# EAGLE library part XIO (library sjg-stm32)
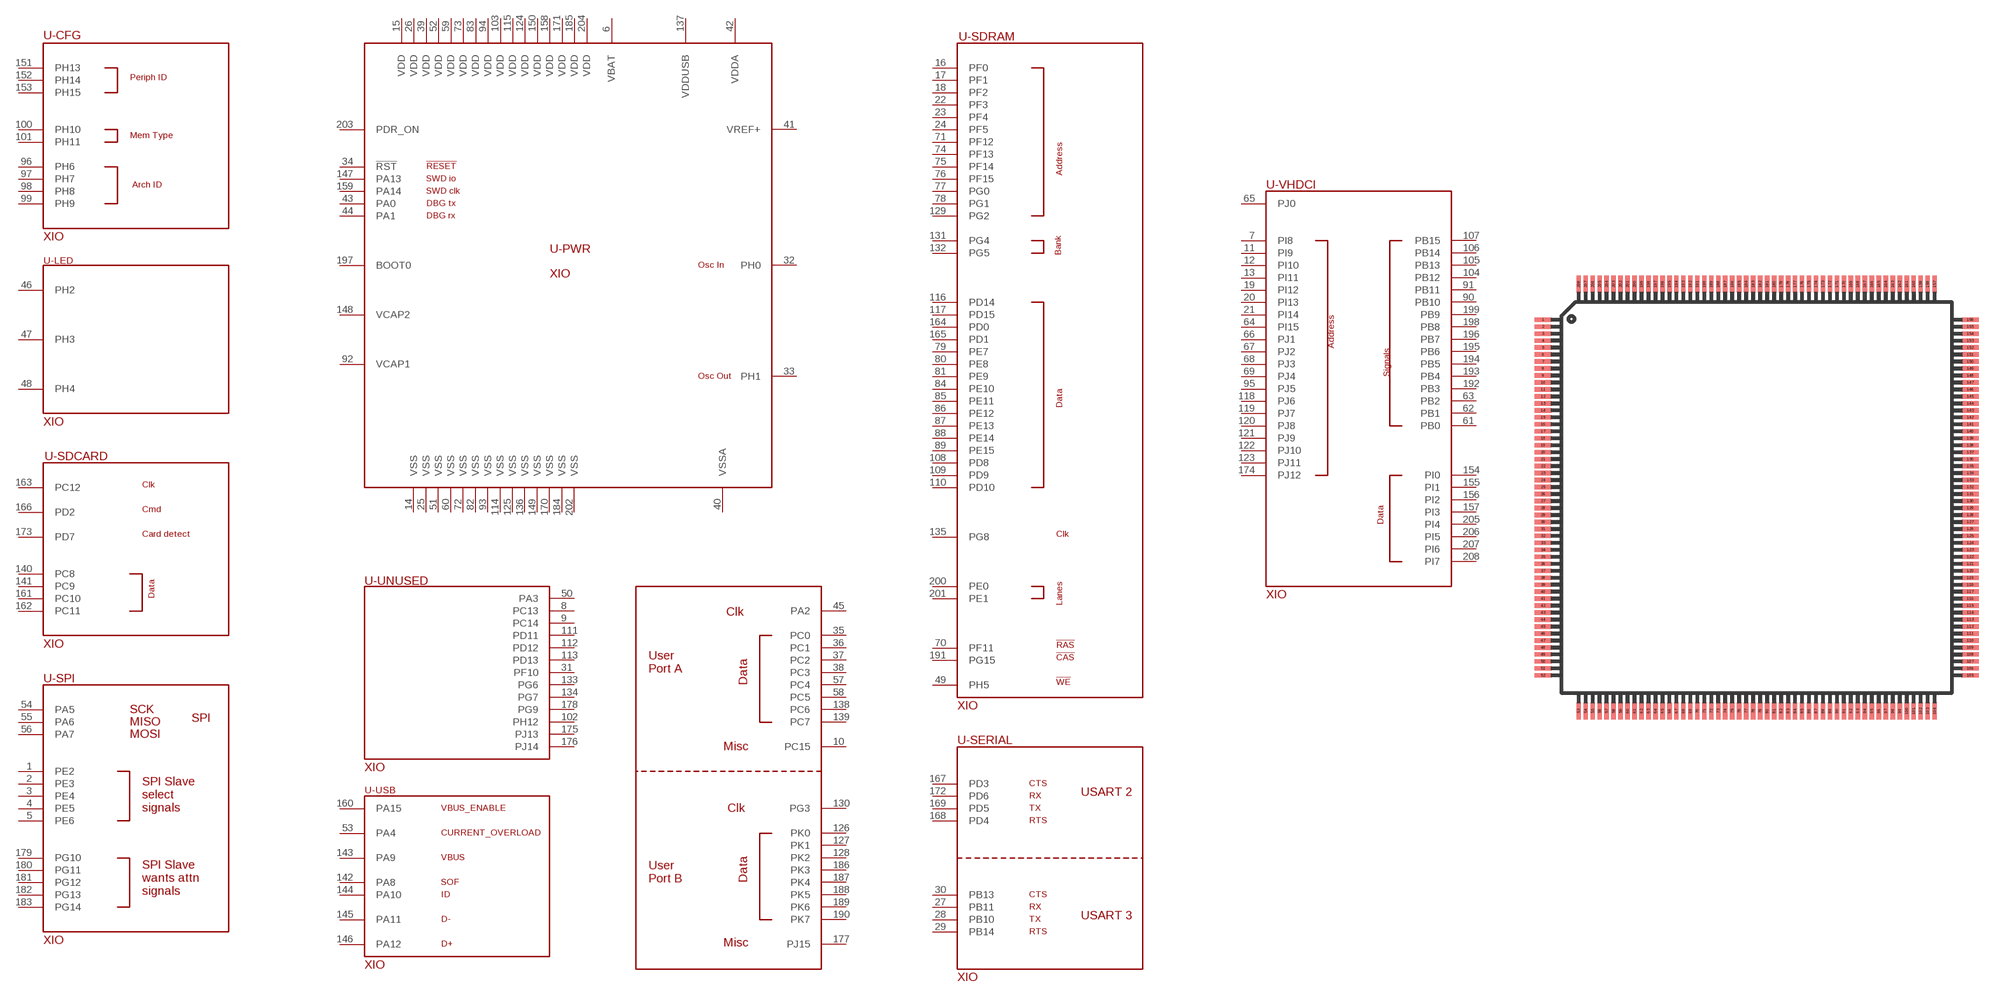
[diagram p6: symbol with the pads of PQFP208; footprint PQFP208]

Designator prefix -; gates -CFG=XIO-CFG -LED=XIO-LED -PWR=XIO-PWR -SDCARD=XIO-SDCARD -SDRAM=XIO-SDRAM -SPI=XIO-SPI -UNUSED=XIO-UNUSED -USB=XIO-USB -USER=XIO-USER -VHDCI=XIO-VHDCI -SERIAL=XIO-USART

## XIO  [PQFP208]
1  -SPI:PE2
2  -SPI:PE3
3  -SPI:PE4
4  -SPI:PE5
5  -SPI:PE6
6  -PWR:VBAT
7  -VHDCI:PI8
8  -UNUSED:PC13
9  -UNUSED:PC14
10  -USER:PC15
11  -VHDCI:PI9
12  -VHDCI:PI10
13  -VHDCI:PI11
14  -PWR:VSS
15  -PWR:VDD
16  -SDRAM:PF0
17  -SDRAM:PF1
18  -SDRAM:PF2
19  -VHDCI:PI12
20  -VHDCI:PI13
21  -VHDCI:PI14
22  -SDRAM:PF3
23  -SDRAM:PF4
24  -SDRAM:PF5
25  -PWR:VSS
26  -PWR:VDD
27  -SERIAL:PB11
28  -SERIAL:PB10
29  -SERIAL:PB14
30  -SERIAL:PB13
31  -UNUSED:PF10
32  -PWR:PH0
33  -PWR:PH1
34  -PWR:!RST!
35  -USER:PC0
36  -USER:PC1
37  -USER:PC2
38  -USER:PC3
39  -PWR:VDD
40  -PWR:VSSA
41  -PWR:VREF+
42  -PWR:VDDA
43  -PWR:PA0
44  -PWR:PA1
45  -USER:PA2
46  -LED:PH2
47  -LED:PH3
48  -LED:PH4
49  -SDRAM:PH5
50  -UNUSED:PA3
51  -PWR:VSS
52  -PWR:VDD
53  -USB:PA4
54  -SPI:PA5
55  -SPI:PA6
56  -SPI:PA7
57  -USER:PC4
58  -USER:PC5
59  -PWR:VDD
60  -PWR:VSS
61  -VHDCI:PB0
62  -VHDCI:PB1
63  -VHDCI:PB2
64  -VHDCI:PI15
65  -VHDCI:PJ0
66  -VHDCI:PJ1
67  -VHDCI:PJ2
68  -VHDCI:PJ3
69  -VHDCI:PJ4
70  -SDRAM:PF11
71  -SDRAM:PF12
72  -PWR:VSS
73  -PWR:VDD
74  -SDRAM:PF13
75  -SDRAM:PF14
76  -SDRAM:PF15
77  -SDRAM:PG0
78  -SDRAM:PG1
79  -SDRAM:PE7
80  -SDRAM:PE8
81  -SDRAM:PE9
82  -PWR:VSS
83  -PWR:VDD
84  -SDRAM:PE10
85  -SDRAM:PE11
86  -SDRAM:PE12
87  -SDRAM:PE13
88  -SDRAM:PE14
89  -SDRAM:PE15
90  -VHDCI:PB10
91  -VHDCI:PB11
92  -PWR:VCAP1
93  -PWR:VSS
94  -PWR:VDD
95  -VHDCI:PJ5
96  -CFG:PH6
97  -CFG:PH7
98  -CFG:PH8
99  -CFG:PH9
100  -CFG:PH10
101  -CFG:PH11
102  -UNUSED:PH12
103  -PWR:VDD
104  -VHDCI:PB12
105  -VHDCI:PB13
106  -VHDCI:PB14
107  -VHDCI:PB15
108  -SDRAM:PD8
109  -SDRAM:PD9
110  -SDRAM:PD10
111  -UNUSED:PD11
112  -UNUSED:PD12
113  -UNUSED:PD13
114  -PWR:VSS
115  -PWR:VDD
116  -SDRAM:PD14
117  -SDRAM:PD15
118  -VHDCI:PJ6
119  -VHDCI:PJ7
120  -VHDCI:PJ8
121  -VHDCI:PJ9
122  -VHDCI:PJ10
123  -VHDCI:PJ11
124  -PWR:VDD
125  -PWR:VSS
126  -USER:PK0
127  -USER:PK1
128  -USER:PK2
129  -SDRAM:PG2
130  -USER:PG3
131  -SDRAM:PG4
132  -SDRAM:PG5
133  -UNUSED:PG6
134  -UNUSED:PG7
135  -SDRAM:PG8
136  -PWR:VSS
137  -PWR:VDDUSB
138  -USER:PC6
139  -USER:PC7
140  -SDCARD:PC8
141  -SDCARD:PC9
142  -USB:PA8
143  -USB:PA9
144  -USB:PA10
145  -USB:PA11
146  -USB:PA12
147  -PWR:PA13
148  -PWR:VCAP2
149  -PWR:VSS
150  -PWR:VDD
151  -CFG:PH13
152  -CFG:PH14
153  -CFG:PH15
154  -VHDCI:PI0
155  -VHDCI:PI1
156  -VHDCI:PI2
157  -VHDCI:PI3
158  -PWR:VDD
159  -PWR:PA14
160  -USB:PA15
161  -SDCARD:PC10
162  -SDCARD:PC11
163  -SDCARD:PC12
164  -SDRAM:PD0
165  -SDRAM:PD1
166  -SDCARD:PD2
167  -SERIAL:PD3
168  -SERIAL:PD4
169  -SERIAL:PD5
170  -PWR:VSS
171  -PWR:VDD
172  -SERIAL:PD6
173  -SDCARD:PD7
174  -VHDCI:PJ12
175  -UNUSED:PJ13
176  -UNUSED:PJ14
177  -USER:PJ15
178  -UNUSED:PG9
179  -SPI:PG10
180  -SPI:PG11
181  -SPI:PG12
182  -SPI:PG13
183  -SPI:PG14
184  -PWR:VSS
185  -PWR:VDD
186  -USER:PK3
187  -USER:PK4
188  -USER:PK5
189  -USER:PK6
190  -USER:PK7
191  -SDRAM:PG15
192  -VHDCI:PB3
193  -VHDCI:PB4
194  -VHDCI:PB5
195  -VHDCI:PB6
196  -VHDCI:PB7
197  -PWR:BOOT0
198  -VHDCI:PB8
199  -VHDCI:PB9
200  -SDRAM:PE0
201  -SDRAM:PE1
202  -PWR:VSS
203  -PWR:PDR_ON
204  -PWR:VDD
205  -VHDCI:PI4
206  -VHDCI:PI5
207  -VHDCI:PI6
208  -VHDCI:PI7

## Footprint PQFP208 (pad centres in mm)
PLASTIC QUAD FLAT PACK
smd 1.2 x 0.32: 1 -15.3,12.75; 2 -15.3,12.25; 3 -15.3,11.75; 4 -15.3,11.25; 5 -15.3,10.75; 6 -15.3,10.25; 7 -15.3,9.75; 8 -15.3,9.25; 9 -15.3,8.75; 10 -15.3,8.25; 11 -15.3,7.75; 12 -15.3,7.25; 13 -15.3,6.75; 14 -15.3,6.25; 15 -15.3,5.75; 16 -15.3,5.25; 17 -15.3,4.75; 18 -15.3,4.25; 19 -15.3,3.75; 20 -15.3,3.25; 21 -15.3,2.75; 22 -15.3,2.25; 23 -15.3,1.75; 24 -15.3,1.25; 25 -15.3,0.75; 26 -15.3,0.25; 27 -15.3,-0.25; 28 -15.3,-0.75; 29 -15.3,-1.25; 30 -15.3,-1.75; 31 -15.3,-2.25; 32 -15.3,-2.75; 33 -15.3,-3.25; 34 -15.3,-3.75; 35 -15.3,-4.25; 36 -15.3,-4.75; 37 -15.3,-5.25; 38 -15.3,-5.75; 39 -15.3,-6.25; 40 -15.3,-6.75; 41 -15.3,-7.25; 42 -15.3,-7.75; 43 -15.3,-8.25; 44 -15.3,-8.75; 45 -15.3,-9.25; 46 -15.3,-9.75; 47 -15.3,-10.25; 48 -15.3,-10.75; 49 -15.3,-11.25; 50 -15.3,-11.75; 51 -15.3,-12.25; 52 -15.3,-12.75; 105 15.3,-12.75; 106 15.3,-12.25; 107 15.3,-11.75; 108 15.3,-11.25; 109 15.3,-10.75; 110 15.3,-10.25; 111 15.3,-9.75; 112 15.3,-9.25; 113 15.3,-8.75; 114 15.3,-8.25; 115 15.3,-7.75; 116 15.3,-7.25; 117 15.3,-6.75; 118 15.3,-6.25; 119 15.3,-5.75; 120 15.3,-5.25; 121 15.3,-4.75; 122 15.3,-4.25; 123 15.3,-3.75; 124 15.3,-3.25; 125 15.3,-2.75; 126 15.3,-2.25; 127 15.3,-1.75; 128 15.3,-1.25; 129 15.3,-0.75; 130 15.3,-0.25; 131 15.3,0.25; 132 15.3,0.75; 133 15.3,1.25; 134 15.3,1.75; 135 15.3,2.25; 136 15.3,2.75; 137 15.3,3.25; 138 15.3,3.75; 139 15.3,4.25; 140 15.3,4.75; 141 15.3,5.25; 142 15.3,5.75; 143 15.3,6.25; 144 15.3,6.75; 145 15.3,7.25; 146 15.3,7.75; 147 15.3,8.25; 148 15.3,8.75; 149 15.3,9.25; 150 15.3,9.75; 151 15.3,10.25; 152 15.3,10.75; 153 15.3,11.25; 154 15.3,11.75; 155 15.3,12.25; 156 15.3,12.75
smd 0.32 x 1.2: 53 -12.75,-15.3; 54 -12.25,-15.3; 55 -11.75,-15.3; 56 -11.25,-15.3; 57 -10.75,-15.3; 58 -10.25,-15.3; 59 -9.75,-15.3; 60 -9.25,-15.3; 61 -8.75,-15.3; 62 -8.25,-15.3; 63 -7.75,-15.3; 64 -7.25,-15.3; 65 -6.75,-15.3; 66 -6.25,-15.3; 67 -5.75,-15.3; 68 -5.25,-15.3; 69 -4.75,-15.3; 70 -4.25,-15.3; 71 -3.75,-15.3; 72 -3.25,-15.3; 73 -2.75,-15.3; 74 -2.25,-15.3; 75 -1.75,-15.3; 76 -1.25,-15.3; 77 -0.75,-15.3; 78 -0.25,-15.3; 79 0.25,-15.3; 80 0.75,-15.3; 81 1.25,-15.3; 82 1.75,-15.3; 83 2.25,-15.3; 84 2.75,-15.3; 85 3.25,-15.3; 86 3.75,-15.3; 87 4.25,-15.3; 88 4.75,-15.3; 89 5.25,-15.3; 90 5.75,-15.3; 91 6.25,-15.3; 92 6.75,-15.3; 93 7.25,-15.3; 94 7.75,-15.3; 95 8.25,-15.3; 96 8.75,-15.3; 97 9.25,-15.3; 98 9.75,-15.3; 99 10.25,-15.3; 100 10.75,-15.3; 101 11.25,-15.3; 102 11.75,-15.3; 103 12.25,-15.3; 104 12.75,-15.3; 157 12.75,15.3; 158 12.25,15.3; 159 11.75,15.3; 160 11.25,15.3; 161 10.75,15.3; 162 10.25,15.3; 163 9.75,15.3; 164 9.25,15.3; 165 8.75,15.3; 166 8.25,15.3; 167 7.75,15.3; 168 7.25,15.3; 169 6.75,15.3; 170 6.25,15.3; 171 5.75,15.3; 172 5.25,15.3; 173 4.75,15.3; 174 4.25,15.3; 175 3.75,15.3; 176 3.25,15.3; 177 2.75,15.3; 178 2.25,15.3; 179 1.75,15.3; 180 1.25,15.3; 181 0.75,15.3; 182 0.25,15.3; 183 -0.25,15.3; 184 -0.75,15.3; 185 -1.25,15.3; 186 -1.75,15.3; 187 -2.25,15.3; 188 -2.75,15.3; 189 -3.25,15.3; 190 -3.75,15.3; 191 -4.25,15.3; 192 -4.75,15.3; 193 -5.25,15.3; 194 -5.75,15.3; 195 -6.25,15.3; 196 -6.75,15.3; 197 -7.25,15.3; 198 -7.75,15.3; 199 -8.25,15.3; 200 -8.75,15.3; 201 -9.25,15.3; 202 -9.75,15.3; 203 -10.25,15.3; 204 -10.75,15.3; 205 -11.25,15.3; 206 -11.75,15.3; 207 -12.25,15.3; 208 -12.75,15.3